# Altium schematic symbol library SCHLib_Bezliudov.SchLib: 108 symbols
Pins are listed as number, name and electrical type; pins without a type are passive.

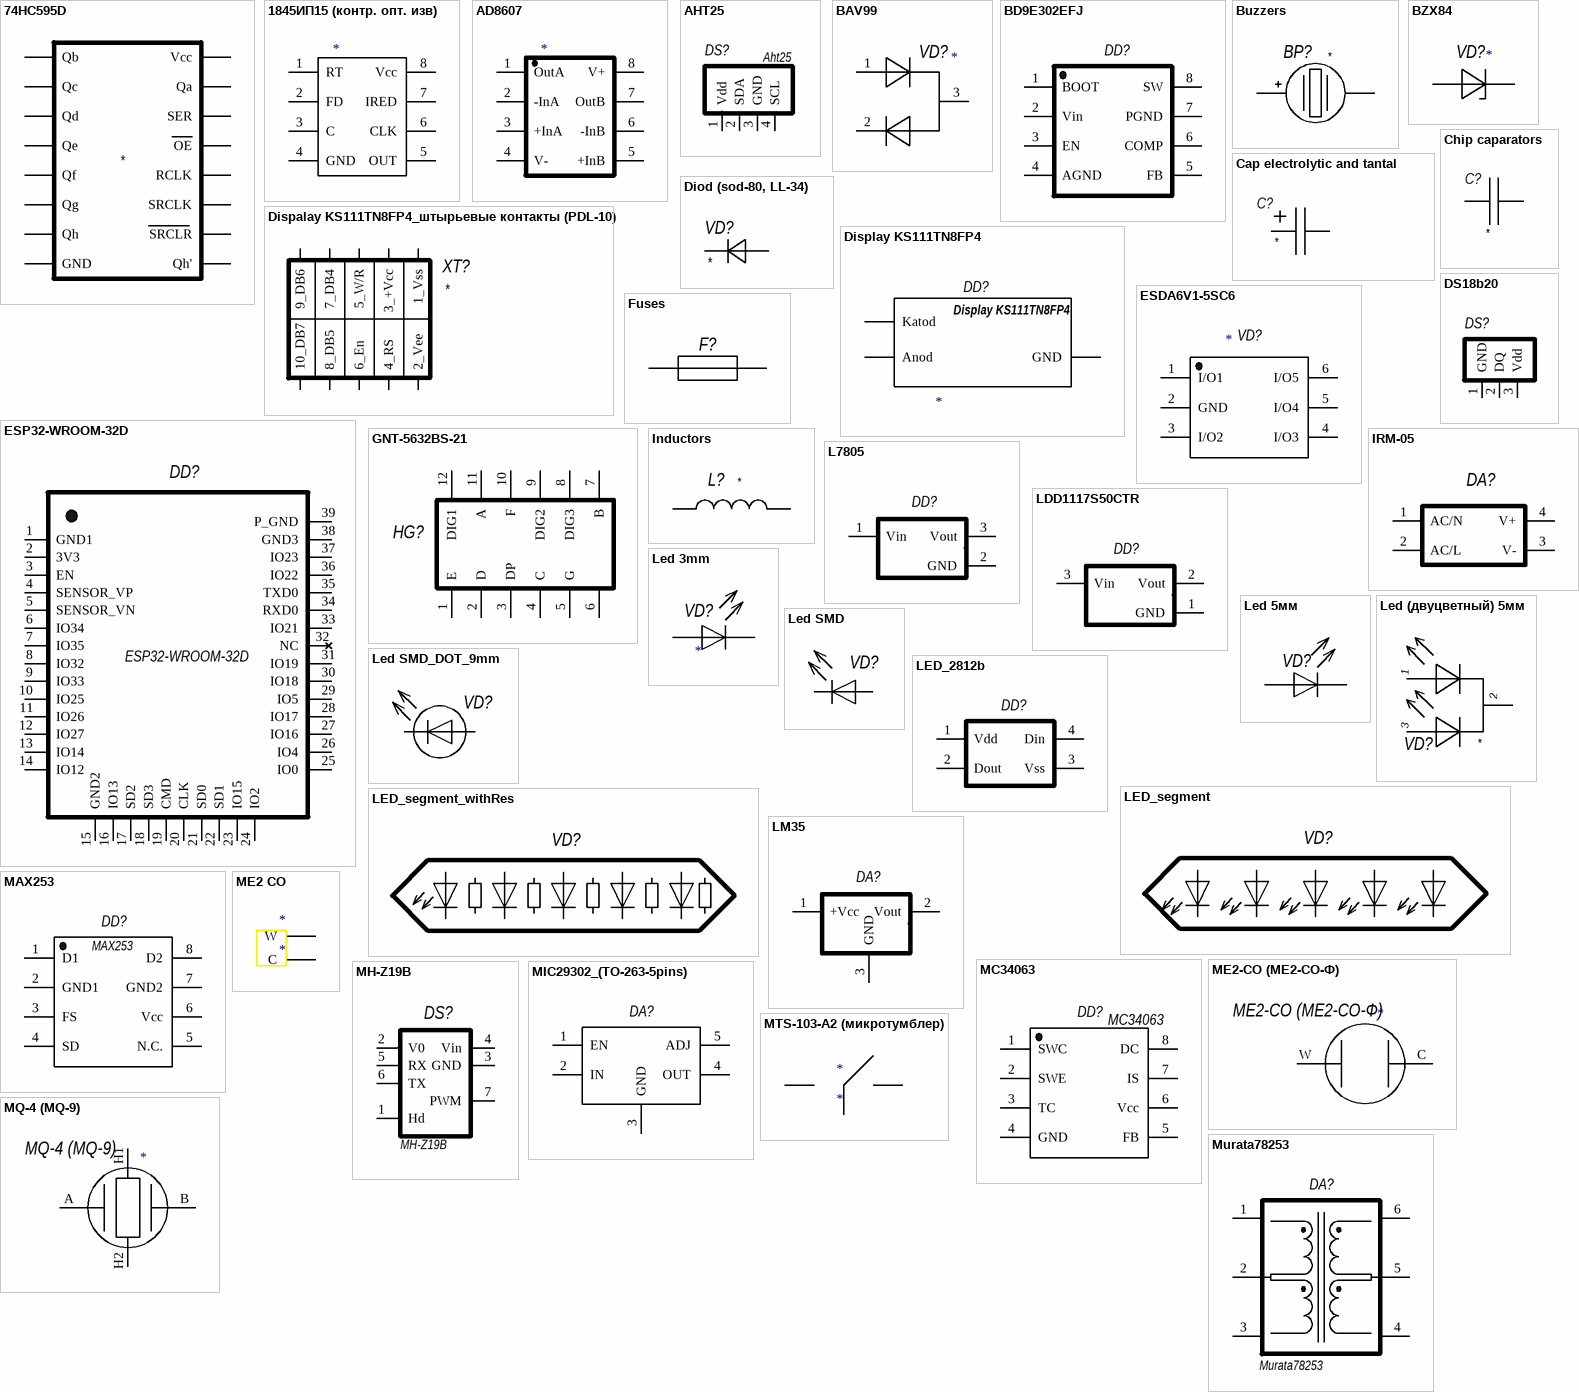
[diagram p0: symbols 74HC595D to Murata78253]

## 74HC595D
designator *
footprint SO-16
pins: 1 Qb, 2 Qc, 3 Qd, 4 Qe, 5 Qf, 6 Qg, 7 Qh, 8 GND, 9 Qh', 10 SRCLR, 11 SRCLK, 12 RCLK, 13 OE, 14 SER, 15 Qa, 16 Vcc

## 1845ИП15 (контр. опт. изв)
designator *  (value not drawn)
footprint SO8
pins: 1 RT, 2 FD, 3 C, 4 GND, 5 OUT, 6 CLK, 7 IRED, 8 Vcc

## AD8607
designator *  (value not drawn)
SOIC-8
footprint SO8
pins: 1 OutA, 2 -InA, 3 +InA, 4 V-, 5 +InB, 6 -InB, 7 OutB, 8 V+

## AHT25
designator DS?, comment Aht25
footprint AHT25
pins: 1 Vdd, 2 SDA, 3 GND, 4 SCL

## BAV99
designator VD?
footprint SOT-23 micro
pins: 1, 2, 3

## BD9E302EFJ
designator DD?  (value not drawn)
ST1S10PHR: *
footprint BD9E302REFJ (HTSOP-J8)
pins: 1 BOOT, 2 Vin, 3 EN, 4 AGND, 5 FB, 6 COMP, 7 PGND, 8 SW

## Buzzers
designator BP?
footprint Buzzer KPT-2210
footprint Buzzer KPI-G2210
footprint Buzzer KPI-G1410
pins: 1, 2

## BZX84
designator VD?
footprint SOT-23
pins: 1 Anode, 2 Cathode

## Cap electrolytic and tantal
designator C?
footprint CAP 10mm 13x94mm
footprint Cap K50-35 (шаг5мм)
footprint Cap К50-35 (шаг7.5мм)
footprint Tantal тип D
footprint Tantal тип E
footprint Cap_tantal_type_B
footprint Cap K50-35 (2.5x6.3x11mm)
footprint Cap K50-35 (2X5X11mm)
footprint Cap K50-35 (2.5x6.3x11mm) -Andgle
footprint Cap K50-35 (2X5X11mm) angle
pins: 1 +, 2 -

## Chip caparators
designator C?
footprint Cap 0805_h=0,6mm
footprint Cap 0805_h=1.25mm
footprint Cap 1206_h=1.6mm
footprint Cap 1210_h=1,7mm
pins: 1 +, 2 -

## Diod (sod-80, LL-34)
designator VD?
footprint Zener diod (sod80c)
pins: 1 *, 2 *

## Dispalay KS111TN8FP4_штырьевые контакты (PDL-10)
designator XT?
footprint PLD-10 (Штыри 2.54) for display KS118TN8FP4
pins: 1 1_Vss, 2 2_Vee, 3 3_+Vcc, 4 4_RS, 5 5_W/R, 6 6_En, 7 7_DB4, 8 8_DB5, 9 9_DB6, 10 10_DB7

## Display KS111TN8FP4
designator DD?
footprint Display KS111TN8FP4
pins: 1 GND, A Anod, K Katod

## DS18b20
designator DS?  (value not drawn)
footprint TO-92_Formed_1
pins: 1 GND, 2 DQ, 3 Vdd

## ESDA6V1-5SC6
designator VD?
ST1S10PHR: *
footprint SOT23-6L
pins: 1 I/O1, 2 GND, 3 I/O2, 4 I/O3, 5 I/O4, 6 I/O5

## ESP32-WROOM-32D
designator DD?
STM8S105: *
footprint ESP32_WROOM-32D
pins: 1 GND1, 2 3V3, 3 EN, 4 SENSOR_VP, 5 SENSOR_VN, 6 IO34, 7 IO35, 8 IO32, 9 IO33, 10 IO25, 11 IO26, 12 IO27, 13 IO14, 14 IO12, 15 GND2, 16 IO13, 17 SD2, 18 SD3, 19 CMD, 20 CLK, 21 SD0, 22 SD1, 23 IO15, 24 IO2, 25 IO0, 26 IO4, 27 IO16, 28 IO17, 29 IO5, 30 IO18, 31 IO19, 32 NC, 33 IO21, 34 RXD0, 35 TXD0, 36 IO22, 37 IO23, 38 GND3, 39 P_GND

## Fuses
designator F?
Model: *; Manufacture: *; HelpURL: *; Case: *; Value: *
footprint FUSE SN010-60
footprint Fuse KL-104-90-2A
footprint Fuse R0603
footprint Fuse R0805
footprint Fuse R1206
pins: 1 *, 2 *

## GNT-5632BS-21
designator HG?, comment Common anod  (value not drawn)
footprint GNT-5632BS-21
pins: 1 E, 2 D, 3 DP, 4 C, 5 G, 6, 7 B, 8 DIG3, 9 DIG2, 10 F, 11 A, 12 DIG1

## Inductors
designator L?
footprint Inductors LQH55
footprint R1206-inductor
footprint Inductor CLF7045
footprint Inductor EC24
pins: 1, 2

## IRM-05
designator DA?  (value not drawn)
footprint IRM-05-10...
pins: 1 AC/N, 2 AC/L, 3 V-, 4 V+

## L7805
designator DD?, comment TO-220  (value not drawn)
footprint TO-220
pins: 1 Vin, 2 GND, 3 Vout

## LDD1117S50CTR
designator DD?, comment SOT-223  (value not drawn)
footprint SOT-223
pins: 1 GND, 2 Vout, 3 Vin

## Led 3mm
designator VD?
footprint Led 3mm
pins: 1 *, 2 *

## Led 5мм
designator VD?  (value not drawn)
footprint Led 5mm
footprint Led 5mm Green
footprint Led 5mm White
footprint Led 5mm_низкий
footprint Led двуцв. 5мм._низкий
footprint Led 5mm 25мм
pins: 1 *, 2 *

## Led (двуцветный) 5мм
designator *, comment VD?
footprint Led двуцв. 5мм.
footprint Led двуцв. 5мм._низкий
footprint Led двуцв. 5мм. со стойкой 7,25мм
footprint Led двуцв. 5мм. со стойкой 10,7мм
footprint Led двуцв. 5мм. со стойкой 12,7мм
pins: 1, 2, 3

## Led SMD
designator VD?  (value not drawn)
footprint LED_0603_Blue
footprint LED_0603_Green
footprint LED_0603_RED
footprint LED_0603_Yellow
footprint LED_0805_RED
pins: 1 *, 2 *

## Led SMD_DOT_9mm
designator VD?  (value not drawn)
footprint LED_0805_RED_DOT_9mm
pins: 1 *, 2 *

## LED_2812b
designator DD?, comment 2812b  (value not drawn)
ST1S10PHR: *
footprint Led_2812b
pins: 1 Vdd, 2 Dout, 3 Vss, 4 Din

## LED_segment
designator VD?  (value not drawn)
footprint LED_segment_48mm
footprint LED_segment_44mm
pins: 1 *, 2 *, 3 *, 4 *, 5 *, 6 *, 7 *, 8 *, 9 *, 10 *

## LED_segment_withRes
designator VD?  (value not drawn)
footprint LED_segment_48mm_commonCat_withRes
footprint LED_segment_44mm_commonCat_withRes
pins: 1 *, 2 *, 3 *, 4 *, 5 *, 6 *, 7 *, 8 *, 9 *, 10 *, 11 *, 12 *, 13 *, 14 *, 15 *, 16 *, 17 *, 18 *, 19 *, 20 *

## LM35
designator DA?, comment TO-92  (value not drawn)
footprint TO-92 _Straight
footprint TO-92_Formed_1
footprint TO-Formed_2
footprint TO-Formed_3
pins: 1 +Vcc, 2 Vout, 3 GND

## MAX253
designator DD?
ST1S10PHR: *
footprint SOIC-8
pins: 1 D1, 2 GND1, 3 FS, 4 SD, 5 N.C., 6 Vcc, 7 GND2, 8 D2

## MC34063
designator DD?
ST1S10PHR: *
footprint SO8
pins: 1 SWC, 2 SWE, 3 TC, 4 GND, 5 FB, 6 Vcc, 7 IS, 8 DC

## ME2 CO
designator *
footprint ME2 CO
pins: 1W W, 2C C

## ME2-CO (ME2-CO-Ф)
designator ME2-CO (ME2-CO-Ф)
footprint ME2-CO (МЕ2-СО-Ф)
pins: C, W

## MH-Z19B
designator DS?
STM8S105: *
footprint MH-Z19B
pins: 1 Hd, 2 V0, 3 GND, 4 Vin, 5 RX, 6 TX, 7 PWM

## MIC29302_(TO-263-5pins)
designator DA?  (value not drawn)
ST1S10PHR: *
footprint TO-263 5pins
pins: 1 EN, 2 IN, 3 GND, 4 OUT, 5 ADJ

## MQ-4 (MQ-9)
designator MQ-4 (MQ-9)
footprint MQ-4 (MQ-9)
pins: A, B, H1, H2

## MTS-103-A2 (микротумблер)
designator *
footprint Микротумблер MTS-103
pins: 1, 2, 3

## Murata78253
designator DA?
ST1S10PHR: *
footprint Murata78253 (Transformer)
pins: 1, 2, 3, 4, 5, 6

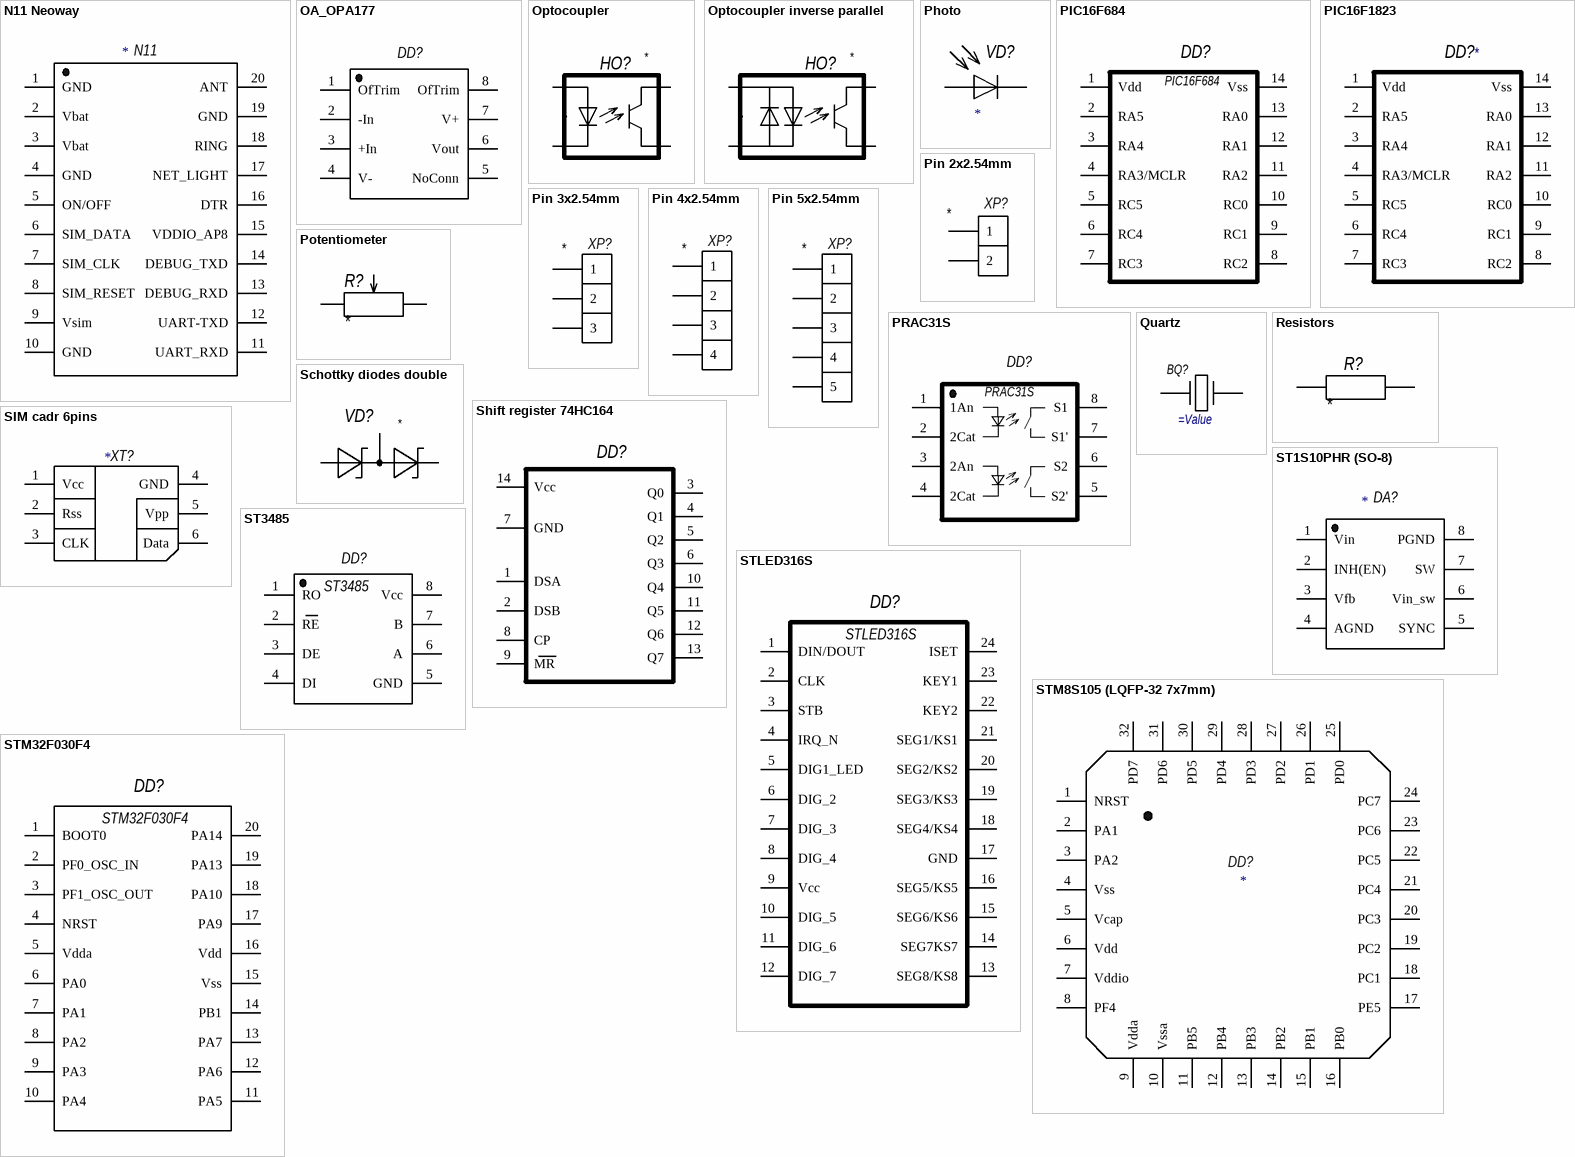
[diagram p1: symbols N11 Neoway to STM32F030F4]

## N11 Neoway
designator N11
footprint N11 Neoway
pins: 1 GND, 2 Vbat, 3 Vbat, 4 GND, 5 ON/OFF, 6 SIM_DATA, 7 SIM_CLK, 8 SIM_RESET, 9 Vsim, 10 GND, 11 UART_RXD, 12 UART-TXD, 13 DEBUG_RXD, 14 DEBUG_TXD, 15 VDDIO_AP8, 16 DTR, 17 NET_LIGHT, 18 RING, 19 GND, 20 ANT

## OA_OPA177
designator DD?
ST1S10PHR: *
footprint DIP-8 (7.62mm) Panel
pins: 1 OfTrim, 2 -In, 3 +In, 4 V-, 5 NoConn, 6 Vout, 7 V+, 8 OfTrim

## Optocoupler
designator HO?
footprint PDIP-4
footprint DIP-4 8.0x2.54
pins: 1, 2, 3, 4

## Optocoupler inverse parallel
designator HO?
footprint DIP-4 8.0x2.54
footprint PDIP-4
pins: 1, 2, 3, 4

## Photo
designator VD?
footprint LED and Photo 2.54
footprint PhotoLed_DIP
pins: 1 *, 2 *

## PIC16F684
designator DD?
footprint SOIC-14
pins: 1 Vdd, 2 RA5, 3 RA4, 4 RA3/MCLR, 5 RC5, 6 RC4, 7 RC3, 8 RC2, 9 RC1, 10 RC0, 11 RA2, 12 RA1, 13 RA0, 14 Vss

## PIC16F1823
designator DD?
footprint SOIC-14
pins: 1 Vdd, 2 RA5, 3 RA4, 4 RA3/MCLR, 5 RC5, 6 RC4, 7 RC3, 8 RC2, 9 RC1, 10 RC0, 11 RA2, 12 RA1, 13 RA0, 14 Vss

## Pin 2x2.54mm
designator *, comment XP?
footprint Jumper 2x2.54
footprint Pin 2x2.54
pins: 1, 2

## Pin 3x2.54mm
designator *, comment XP?
footprint Pin 3x2.54
pins: 1, 2, 3

## Pin 4x2.54mm
designator *, comment XP?
footprint Pin 4x2.54
footprint PBS-4 (DS1023) 2.54x8.5
footprint PBS-4R (DS1024) 2.54x8.5
pins: 1, 2, 3, 4

## Pin 5x2.54mm
designator *, comment XP?
footprint Pin 5x2.54
footprint Pin (B5B-XH-A) 5x2.5
footprint WF-5_(DS1070-5M)
pins: 1, 2, 3, 4, 5

## Potentiometer
designator R?
Model: *; Manufacture: *; HelpURL: *; Case: *; Value: *
footprint Подстроечный резистор
footprint Potentiometer 3329H
footprint Potentiometer 3296W
pins: 1 *, 2 *, 3 *

## PRAC31S
designator DD?
ST1S10PHR: *
footprint SOP-8 PRAC31
pins: 1 1An, 2 2Cat, 3 2An, 4 2Cat, 5 S2', 6 S2, 7 S1', 8 S1

## Quartz
designator BQ?
footprint Quartz HC49SM
footprint Quartz 8x3.8mm
pins: 1, 2

## Resistors
designator R?
Model: *; Manufacture: *; HelpURL: *; Case: *; Value: *
footprint R1206
footprint Res21mm
footprint Res 10x4
footprint R0805
footprint R2010
footprint R1210 - duplicate
footprint R0603
footprint R2512
pins: 1 *, 2 *

## Schottky diodes double
designator VD?
footprint SOT-23
pins: 1, 2, 3

## Shift register 74HC164
designator DD?, comment 74HC164  (value not drawn)
footprint SOIC-14
pins: 1 DSA, 2 DSB, 3 Q0, 4 Q1, 5 Q2, 6 Q3, 7 GND, 8 CP, 9 MR, 10 Q4, 11 Q5, 12 Q6, 13 Q7, 14 Vcc

## SIM cadr 6pins
designator XT?
footprint SIM holder (big)
footprint SIM holder (mini) 6 pins
pins: 1 Vcc, 2 Rss, 3 CLK, 4 GND, 5 Vpp, 6 Data

## ST1S10PHR (SO-8)
designator DA?
ST1S10PHR: *
footprint SO8 for STS10PHR
pins: 1 Vin, 2 INH(EN), 3 Vfb, 4 AGND, 5 SYNC, 6 Vin_sw, 7 SW, 8 PGND

## ST3485
designator DD?
ST1S10PHR: *
footprint SO8
pins: 1 RO, 2 RE, 3 DE, 4 DI, 5 GND, 6 A, 7 B, 8 Vcc

## STLED316S
designator DD?
footprint SO-24
pins: 1 DIN/DOUT, 2 CLK, 3 STB, 4 IRQ_N, 5 DIG1_LED, 6 DIG_2, 7 DIG_3, 8 DIG_4, 9 Vcc, 10 DIG_5, 11 DIG_6, 12 DIG_7, 13 SEG8/KS8, 14 SEG7KS7, 15 SEG6/KS6, 16 SEG5/KS5, 17 GND, 18 SEG4/KS4, 19 SEG3/KS3, 20 SEG2/KS2, 21 SEG1/KS1, 22 KEY2, 23 KEY1, 24 ISET

## STM8S105 (LQFP-32 7x7mm)
designator DD?
STM8S105: *
footprint LQFP-32 (7x7mm)
pins: 1 NRST, 2 PA1, 3 PA2, 4 Vss, 5 Vcap, 6 Vdd, 7 Vddio, 8 PF4, 9 Vdda, 10 Vssa, 11 PB5, 12 PB4, 13 PB3, 14 PB2, 15 PB1, 16 PB0, 17 PE5, 18 PC1, 19 PC2, 20 PC3, 21 PC4, 22 PC5, 23 PC6, 24 PC7, 25 PD0, 26 PD1, 27 PD2, 28 PD3, 29 PD4, 30 PD5, 31 PD6, 32 PD7

## STM32F030F4
designator DD?
footprint TSSOP20 (TSOP, 20-Leads, Body 6,50x4,40mm, Pitch 0,65mm, IPC Medium Density)
pins: 1 BOOT0, 2 PF0_OSC_IN, 3 PF1_OSC_OUT, 4 NRST, 5 Vdda, 6 PA0, 7 PA1, 8 PA2, 9 PA3, 10 PA4, 11 PA5, 12 PA6, 13 PA7, 14 PB1, 15 Vss, 16 Vdd, 17 PA9, 18 PA10, 19 PA13, 20 PA14

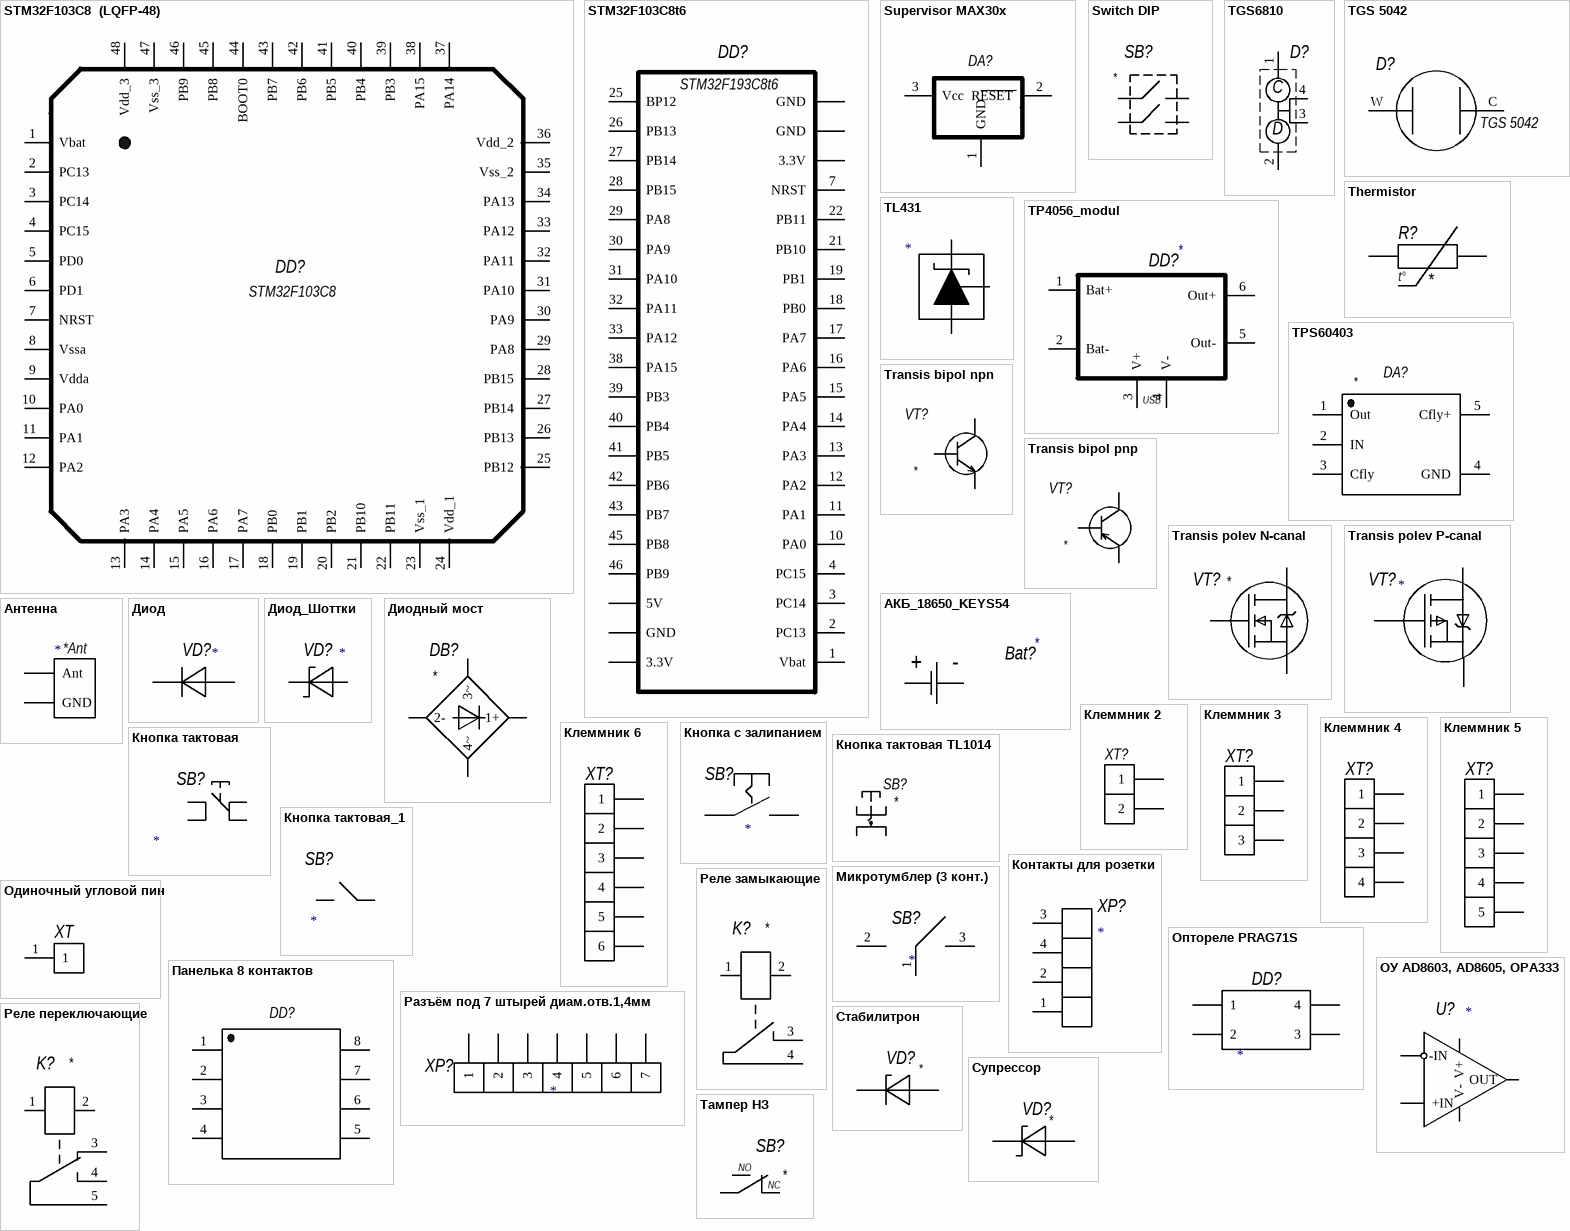
[diagram p2: symbols STM32F103C8  (LQFP-48) to Тампер НЗ]

## STM32F103C8  (LQFP-48)
designator DD?, comment STM32F103C8
STM8S105: *
footprint LQFP48  48-pin (7x7mm) (CQFP, 48-Leads, Body 9,00x9,00mm, Pitch 0,50mm, IPC Medium Density)
pins: 1 Vbat, 2 PC13, 3 PC14, 4 PC15, 5 PD0, 6 PD1, 7 NRST, 8 Vssa, 9 Vdda, 10 PA0, 11 PA1, 12 PA2, 13 PA3, 14 PA4, 15 PA5, 16 PA6, 17 PA7, 18 PB0, 19 PB1, 20 PB2, 21 PB10, 22 PB11, 23 Vss_1, 24 Vdd_1, 25 PB12, 26 PB13, 27 PB14, 28 PB15, 29 PA8, 30 PA9, 31 PA10, 32 PA11, 33 PA12, 34 PA13, 35 Vss_2, 36 Vdd_2, 37 PA14, 38 PA15, 39 PB3, 40 PB4, 41 PB5, 42 PB6, 43 PB7, 44 BOOT0, 45 PB8, 46 PB9, 47 Vss_3, 48 Vdd_3

## STM32F103C8t6
designator DD?, comment STM32F193C8t6
footprint STM32F103C8t6
pins: 1 Vbat, 2 PC13, 3 PC14, 4 PC15, 7 NRST, 10 PA0, 11 PA1, 12 PA2, 13 PA3, 14 PA4, 15 PA5, 16 PA6, 17 PA7, 18 PB0, 19 PB1, 20 3.3V, 21 PB10, 22 PB11, 23 GND, 24 GND, 25 BP12, 26 PB13, 27 PB14, 28 PB15, 29 PA8, 30 PA9, 31 PA10, 32 PA11, 33 PA12, 38 PA15, 39 PB3, 40 PB4, 41 PB5, 42 PB6, 43 PB7, 45 PB8, 46 PB9, 47 5V, 48 GND, 49 3.3V

## Supervisor MAX30x
designator DA?, comment SOT23-3  (value not drawn)
footprint SOT-23
pins: 1 GND, 2 RESET, 3 Vcc

## Switch DIP
designator SB?
footprint Switch-2 DIP
pins: 1 *, 2 *, 3 *, 4 *

## TGS6810
designator D?
Model: *; Manufacture: *; HelpURL: *; Case: *; Value: *
footprint TGS6810
pins: 1, 2, 3, 4
text: C; D

## TGS 5042
designator D?
footprint TGS 5042
pins: C Counter electrode, W Working electrode

## Thermistor
designator R?
Model: *; Manufacture: *; HelpURL: *; Case: *; Value: *
footprint Термистор NTCM-HP-2k2
pins: 1 *, 2 *
text: t°

## TL431
designator *  (value not drawn)
footprint SOT-23
pins: 1 Catode, 2 Ref, 3 Anode

## TP4056_modul
designator DD?
footprint TP4056_MODUL
pins: 1 Bat+, 2 Bat-, 3 V+, 4 V-, 5 Out-, 6 Out+
text: USB

## TPS60403
designator DA?
ST1S10PHR: *
footprint SOT23-5L
pins: 1 Out, 2 IN, 3 Cfly, 4 GND, 5 Cfly+

## Transis bipol npn
designator VT?
footprint SOT-23
pins: 1 *, 2 *, 3 *

## Transis bipol pnp
designator VT?
footprint SOT-23
pins: 1 *, 2 *, 3 *

## Transis polev N-canal
designator VT?
footprint SOT-23 micro
pins: 1 *, 2 *, 3 *

## Transis polev P-canal
designator VT?
footprint SOT-23 micro
pins: 1 *, 2 *, 3 *

## АКБ_18650_KEYS54
designator Bat?
footprint Bat_18650_KEYS54
pins: 1 Bat+, 2 Bat-
text: +; -

## Антенна
designator *, comment *Ant
footprint Держатель антенны
pins: 1 Ant, 2 GND

## Диод
designator VD?
footprint SOD-80
footprint MELF/DO-213AB
footprint Diod_017AA
footprint Diod_DO-15
footprint Diod_DO-41
footprint Diod_DO-201
pins: 1, 2

## Диод_Шоттки
designator VD?
footprint Diod_shottki_SK16
footprint Diod_017AA
footprint Diod_DO-15
footprint Diod_DO-41
footprint Diod_DO-201
footprint Diod_DO-201_Pnanar
pins: 1, 2

## Диодный мост
designator DB?
footprint Диодный мост DB-107S
footprint MBS
pins: 1+, 2-, 3~, 4~

## Клеммник 2
designator XT?  (value not drawn)
footprint Клеммник 2x5мм
footprint Клеммник 2x5мм 2-102-500
footprint Клеммник 2x3,5мм
pins: 1, 2

## Клеммник 3
designator XT?  (value not drawn)
footprint Клеммник 3x5мм
footprint Клеммник 3x5мм 3-102-500
footprint Клеммник 3x3,5мм
pins: 1, 2, 3

## Клеммник 4
designator XT?  (value not drawn)
footprint Клеммник 4x5мм
footprint Клеммник 4x3,5мм
pins: 1, 2, 3, 4

## Клеммник 5
designator XT?  (value not drawn)
footprint Клеммник 5x5мм
footprint Клеммник 5x3,5мм
pins: 1, 2, 3, 4, 5

## Клеммник 6
designator XT?  (value not drawn)
footprint Клеммник 6x5мм
footprint Клеммник 6x3,5мм
pins: 1, 2, 3, 4, 5, 6

## Кнопка с залипанием
designator SB?
footprint Под кнопку
pins: 1, 2

## Кнопка тактовая
designator SB?
footprint Кнопка тактовая 5мм
footprint Кнопка тактовая 8мм
footprint Кнопка тактовая 9.5мм
footprint Кнопка тактовая 13мм
footprint Кнопка тактовая 15мм
footprint Кнопка тактовая SMT 5.2x5.2-h1.5mm (TS-1187, TS-4401)
footprint Кнопка тактовая SMT 5.2x5.2-h1.6mm (TS-1187, TS-4401)
footprint Кнопка тактовая SMT 5.2x5.2-h1.7mm (TS-1187, TS-4401)
footprint Кнопка тактовая SMT 5.2x5.2-h1.9mm (TS-1187, TS-4401)
footprint Кнопка тактовая SMT 5.2x5.2-h2.0mm (TS-1187, TS-4401)
footprint Кнопка тактовая SMT 5.2x5.2-h2.3mm (TS-1187, TS-4401)
footprint Кнопка тактовая SMT 5.2x5.2-h2.5mm (TS-1187, TS-4401)
footprint Кнопка тактовая SMT 5.2x5.2-h3.0mm (TS-1187, TS-4401)
footprint Кнопка тактовая SMT 5.2x5.2-h3.5mm (TS-1187, TS-4401)
footprint Кнопка тактовая SMT 5.2x5.2-h4.0mm (TS-1187, TS-4401)
footprint Кнопка тактовая SMT 5.2x5.2-h4.3mm (TS-1187, TS-4401)
footprint Кнопка тактовая SMT 5.2x5.2-h5.0mm (TS-1187, TS-4401)
footprint Кнопка тактовая SMT 6.0x6.0-h4.3mm (IT-1102)
footprint Кнопка тактовая SMT 6.0x6.0-h5.0mm (IT-1102)
footprint Кнопка тактовая SMT 6.0x6.0-h6.0mm (IT-1102)
footprint Кнопка тактовая SMT 6.0x6.0-h7.0mm (IT-1102)
footprint Кнопка тактовая SMT 6.0x6.0-h8.0mm (IT-1102)
footprint Кнопка тактовая SMT 6.0x6.0-h9.0mm (IT-1102)
footprint Кнопка тактовая SMT 6.0x6.0-h10.0mm (IT-1102)
footprint Кнопка тактовая SMT 6.0x6.0-h11.0mm (IT-1102)
footprint Кнопка тактовая SMT 6.0x6.0-h12.0mm (IT-1102)
pins: 1 *, 2 *, 3 *, 4 *

## Кнопка тактовая TL1014
designator SB?
footprint Кнопка TL1014-A 4.7x3.5-h1.65mm (TL-1014-A-No Boss)
footprint Кнопка TL1014-B 4.7x3.5-h1.65mm (TL-1014-B-With Boss)
pins: 1 *, 2 *, 3 *, 4 *

## Кнопка тактовая_1
designator SB?
footprint Кнопка тактовая 1
pins: 1 *, 2 *

## Контакты для розетки
designator XP?
footprint Разъём для розетки извещателя
pins: 1 *, 2 *, 3 *, 4 *

## Микротумблер (3 конт.)
designator SB?
footprint Микротумблер MTS-103
pins: 1, 2, 3

## Одиночный угловой пин
designator XT  (value not drawn)
footprint Угловой штырь
pins: 1

## Оптореле PRAG71S
designator DD?
footprint SOP-4
pins: 1, 2, 3, 4

## ОУ AD8603, AD8605, OPA333
designator U?
ОУ AD8603, AD8605, OPA333
footprint TSOT-5
pins: 1 OUT, 2 V-, 3 +IN, 4 -IN, 5 V+

## Панелька 8 контактов
designator DD?
ST1S10PHR: *
footprint DIP-8 (7.62mm) Panel
pins: 1, 2, 3, 4, 5, 6, 7, 8

## Разъём под 7 штырей диам.отв.1,4мм
designator XP?
footprint Разъём под 7 штырей 5,08мм, диам.отв.1.4
pins: 1, 2, 3, 4, 5, 6, 7

## Реле замыкающие
designator K?
footprint Реле TRG1 D-12VDC-S-H
pins: 1, 2, 3, 4

## Реле переключающие
designator K?
footprint Реле HK4100F
footprint Реле NRP07-C12D
pins: 1, 2, 3, 4, 5

## Стабилитрон
designator VD?
footprint SOD-80
footprint Zener Diode 1N5358_19mm (DO-15, DO-201AE)
footprint Zener Diode 1N5358_15.24mm (DO-15, DO-201AE)
footprint Zener Diode 1N5352_12mm (017AA)
footprint Diod_017AA
footprint Diod_DO-15
footprint Diod_DO-41
footprint Diod_DO-201
footprint SMB 403A-03
pins: 1, 2

## Супрессор
designator VD?
footprint SM6T
footprint Diod_017AA
footprint Diod_DO-15
footprint Diod_DO-41
footprint Diod_DO-201
pins: 1, 2

## Тампер НЗ
designator SB?
footprint Tamper micro switch
pins: Com *, NC *, NO

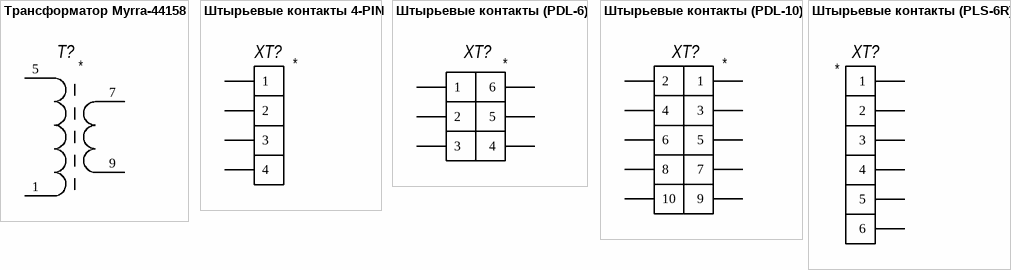
[diagram p3: symbols Трансформатор Myrra-44158 to Штырьевые контакты (PLS-6R)]

## Трансформатор Myrra-44158
designator T?
footprint Трансформатор Myrra-44158
pins: 1, 5, 7, 9

## Штырьевые контакты 4-PIN
designator XT?
footprint PLS-4R (Штыри 2.54)
footprint PBS-4 (DS1023) 2.54x8.5
pins: 1, 2, 3, 4

## Штырьевые контакты (PDL-6)
designator XT?
footprint PLD-6 (Штыри 2.54)
pins: 1, 2, 3, 4, 5, 6

## Штырьевые контакты (PDL-10)
designator XT?
footprint PLD-10 (Штыри 2.54)
pins: 1, 2, 3, 4, 5, 6, 7, 8, 9, 10

## Штырьевые контакты (PLS-6R)
designator XT?
footprint PLS-6R (Штыри 2.54)
pins: 1, 2, 3, 4, 5, 6